# Altium footprint library CAPRR2200W80L2600T1050H1900.PcbLib: 1 footprints
Each footprint in its own frame and in the unit in brackets; x right, y up, seen from the top. Pads: shape width x height; smd on the part's side, far side on the other; paste and mask are expansions set on the pad; w line width, h text height; cw(c..) or ccw(c..) is an arc to the next point about the centre after c.
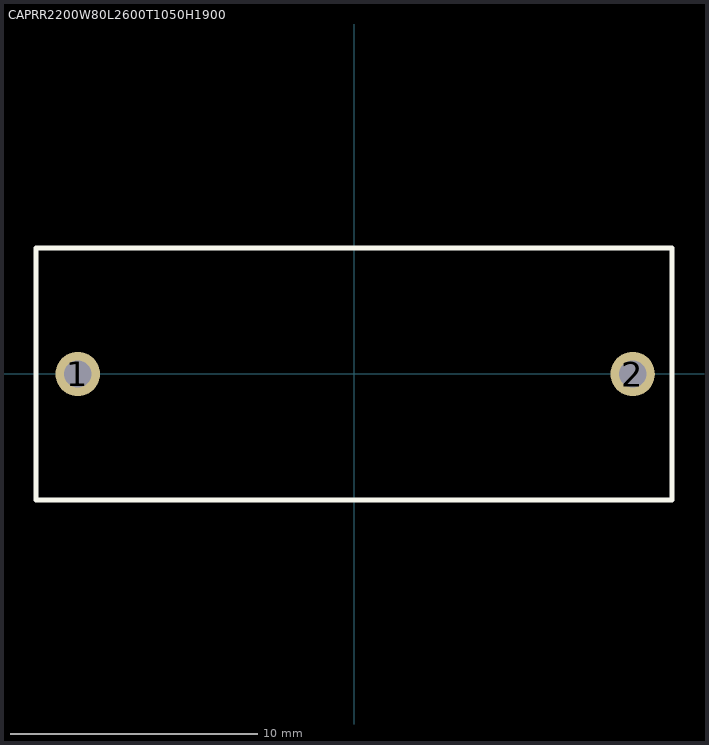
[diagram p0: the footprint, top view; thin cyan lines are the x and y axes]

## CAPRR2200W80L2600T1050H1900 [mm] "Capacitor, Non Polarized 26x10.5mm"
height 19
pads (2):
  round 1.8 hole 1.1: 1(-11.2,0) 2(11.3,0)
Top Overlay:
  lines w0.2: -12.9,-5.1 12.9,-5.1 12.9,5.1 -12.9,5.1 -12.9,-5.1
3D body: height 19, standoff 1, extent -13,-5.25 13,5.25